# EAGLE library part ATZB-RF-233-1-C (library 25cmsquare)
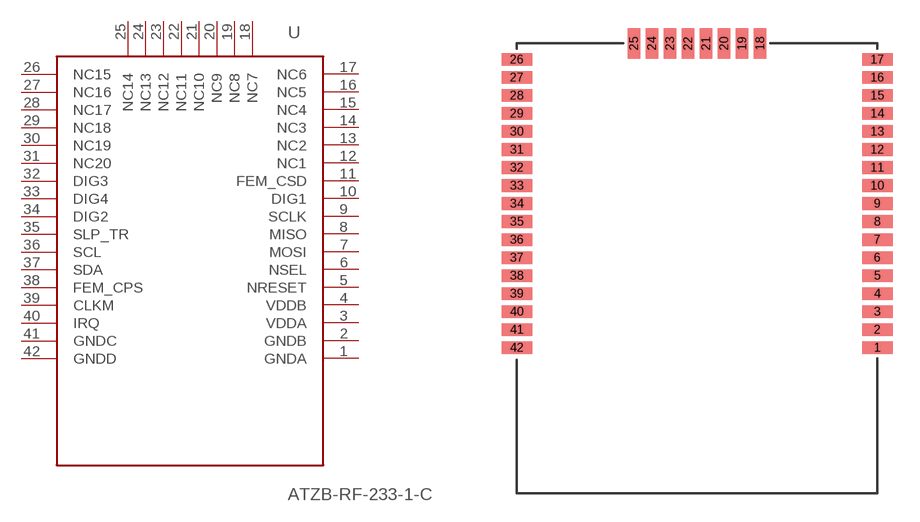
[diagram p8: symbol with the pads of ATZB-RF-233-1-C; footprint ATZB-RF-233-1-C]

Designator prefix U

## ATZB-RF-233-1-C  [ATZB-RF-233-1-C]
1  GNDA
2  GNDB
3  VDDA
4  VDDB
5  NRESET
6  NSEL
7  MOSI
8  MISO
9  SCLK
10  DIG1
11  FEM_CSD
12  NC1
13  NC2
14  NC3
15  NC4
16  NC5
17  NC6
18  NC7
19  NC8
20  NC9
21  NC10
22  NC11
23  NC12
24  NC13
25  NC14
26  NC15
27  NC16
28  NC17
29  NC18
30  NC19
31  NC20
32  DIG3
33  DIG4
34  DIG2
35  SLP_TR
36  SCL
37  SDA
38  FEM_CPS
39  CLKM
40  IRQ
41  GNDC
42  GNDD

## Footprint ATZB-RF-233-1-C (pad centres in mm)
smd 1.7 x 0.7: 1 10,-4.4; 2 10,-3.4; 3 10,-2.4; 4 10,-1.4; 5 10,-0.4; 6 10,0.6; 7 10,1.6; 8 10,2.6; 9 10,3.6; 10 10,4.6; 11 10,5.6; 12 10,6.6; 13 10,7.6; 14 10,8.6; 15 10,9.6; 16 10,10.6; 17 10,11.6; 26 -10,11.6; 27 -10,10.6; 28 -10,9.6; 29 -10,8.6; 30 -10,7.6; 31 -10,6.6; 32 -10,5.6; 33 -10,4.6; 34 -10,3.6; 35 -10,2.6; 36 -10,1.6; 37 -10,0.6; 38 -10,-0.4; 39 -10,-1.4; 40 -10,-2.4; 41 -10,-3.4; 42 -10,-4.4
smd 0.7 x 1.7: 18 3.5,12.5; 19 2.5,12.5; 20 1.5,12.5; 21 0.5,12.5; 22 -0.5,12.5; 23 -1.5,12.5; 24 -2.5,12.5; 25 -3.5,12.5